# EAGLE library part LT8330 (library template_board)
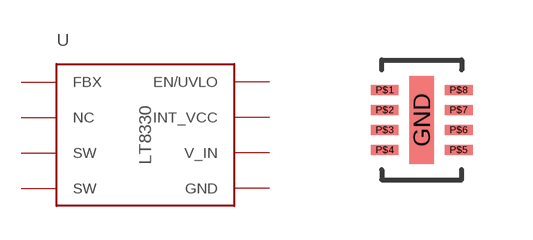
[diagram p25: symbol with the pads of DDB; footprint DDB]

Designator prefix U

## LT8330  [DDB]
GND  GND
P$1  FBX
P$2  NC
P$3  SW
P$4  SW
P$5  GND
P$6  V_IN
P$7  INT_VCC
P$8  EN/UVLO

## Footprint DDB (pad centres in mm)
smd 0.61 x 2.2: GND 0,0
smd 0.7 x 0.25: P$1 -0.925,0.75; P$2 -0.925,0.25; P$3 -0.925,-0.25; P$4 -0.925,-0.75; P$5 0.925,-0.75; P$6 0.925,-0.25; P$7 0.925,0.25; P$8 0.925,0.75